# EAGLE library part LTC4000 (library kitt.ic)
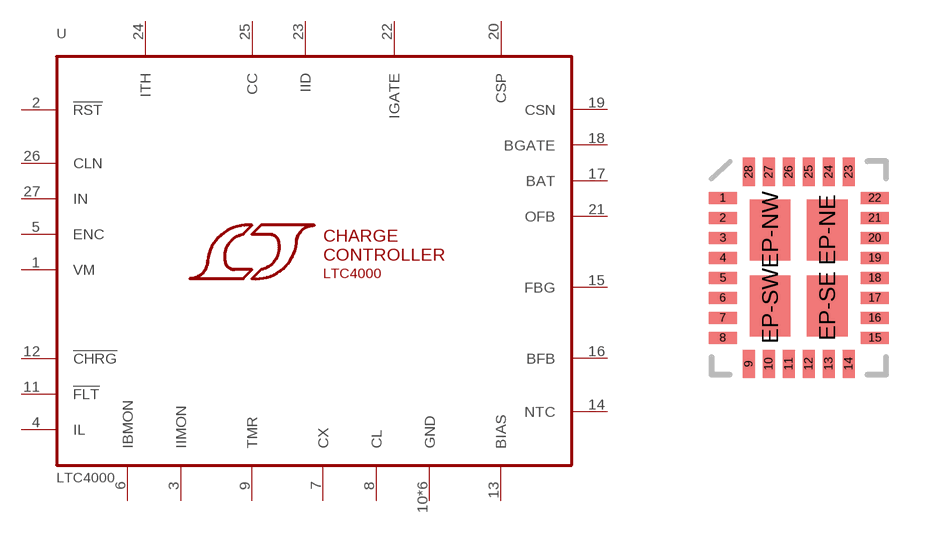
[diagram p10: symbol with the pads of QFN-28_UFD-L; footprint QFN-28_UFD-L]

Designator prefix U

## LTC4000LTC4000EUFD#XXX (CC: XYX17)  [QFN-28_UFD-L]
1  VM
2  !RST
3  IIMON
4  IL
5  ENC
6  IBMON
7  CX
8  CL
9  TMR
10  GND
11  !FLT
12  !CHRG
13  BIAS
14  NTC
15  FBG
16  BFB
17  BAT
18  BGATE
19  CSN
20  CSP
21  OFB
22  IGATE
23  IID
24  ITH
25  CC
26  CLN
27  IN
28  GND
EP-NE  GND
EP-NW  GND
EP-SE  GND
EP-SW  GND

## Footprint QFN-28_UFD-L (pad centres in mm)
smd 0.703 x 0.3: 1 -1.902,1.75; 2 -1.902,1.25; 3 -1.902,0.75; 4 -1.902,0.25; 5 -1.902,-0.25; 6 -1.902,-0.75; 7 -1.902,-1.25; 8 -1.902,-1.75; 15 1.902,-1.75; 16 1.902,-1.25; 17 1.902,-0.75; 18 1.902,-0.25; 19 1.902,0.25; 20 1.902,0.75; 21 1.902,1.25; 22 1.902,1.75
smd 0.3 x 0.703: 9 -1.25,-2.402; 10 -0.75,-2.402; 11 -0.25,-2.402; 12 0.25,-2.402; 13 0.75,-2.402; 14 1.25,-2.402; 23 1.25,2.402; 24 0.75,2.402; 25 0.25,2.402; 26 -0.25,2.402; 27 -0.75,2.402; 28 -1.25,2.402
smd 1.016 x 1.524: EP-NE 0.714,0.953; EP-NW -0.714,0.953; EP-SE 0.714,-0.953; EP-SW -0.714,-0.953